# Altium footprint library XS library.PcbLib: 379 footprints (part 3 of 24)
Each footprint in its own frame and in the unit in brackets; x right, y up, seen from the top. Pads: shape width x height; smd on the part's side, far side on the other; paste and mask are expansions set on the pad; w line width, h text height; cw(c..) or ccw(c..) is an arc to the next point about the centre after c.
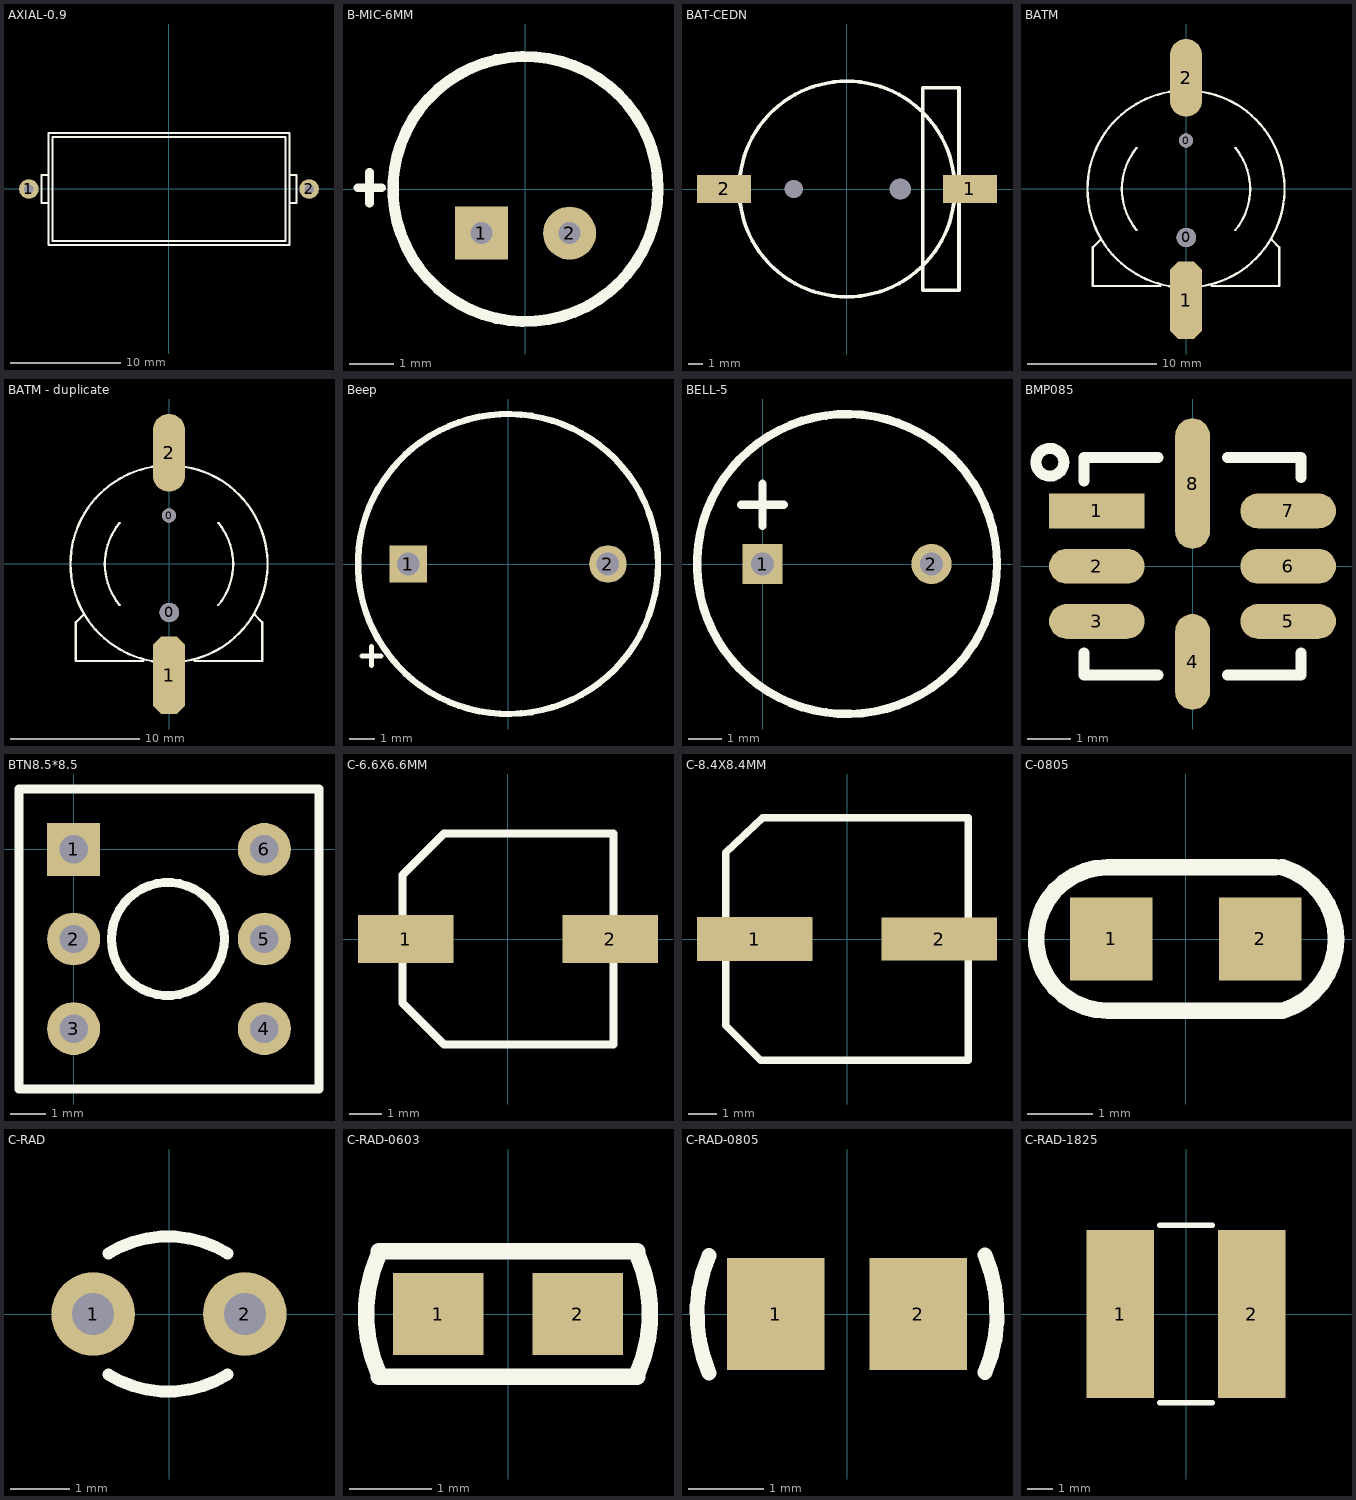
[diagram p2: the footprints below, top view; thin cyan lines are the x and y axes]

## AXIAL-0.9 [mil] "插件电阻"
height 100
pads (2):
  round 70 hole 33.46: 1(-500,0) 2(500,0)
Top Overlay:
  lines w7.87: -430,-50 -455,-50 -455,50 -430,50 ; 430,-50 455,-50 455,50 430,50 ; -430,-200 -430,200 430,200 430,-200 -430,-200 ; -415,-185 -415,185 415,185 415,-185 -415,-185

## B-MIC-6MM [mm]
pads (2):
  rect 1.2x1.2 hole 0.5: 1(-1,-1)
  round 1.2 hole 0.5: 2(1,-1)
Top Overlay:
  circle w0.254: c0,0 r3
  lines w0.2: -3.792,0.03 -3.262,0.03 ; -3.532,-0.32 -3.532,0.38

## BAT-CEDN [mm]
pads (4):
  rect 3.81x2 smd: 1(8.636,0) 2(-8.636,0)
  round 0 hole 1.5 unplated: 3(3.75,0)
  round 0 hole 1.3 unplated: 4(-3.75,0)
Top Overlay:
  circle w0.254: c0,0 r7.578
  lines w0.254: 5.334,-7.112 7.874,-7.112 7.874,7.112 5.334,7.112 5.334,-7.112

## BATM [mm]
pads (4):
  round 1.1 hole 1.1 unplated: 0(0,3.748)
  round 1.5 hole 1.5 unplated: 0(0.025,-3.752)
  oct 2.5x6 smd: 1(0,-8.602)
  oval 2.5x6 smd: 2(0,8.598)
Top Overlay:
  lines w0.178: -6.6,-3.902 -7.2,-4.502 -7.2,-7.502 -2,-7.502 ; -3.815,-3.171 cw(c0,-0.002) -3.812,3.171 ; -0.833,-7.576 cw(c0,-0.002) -7.62,-0.002 cw(c0,-0.002) -0.833,7.573 ; 0.833,-7.576 ccw(c0,-0.002) 0.833,7.573 ; 2,-7.502 7.2,-7.502 7.2,-4.502 6.625,-3.927 ; 3.81,-3.177 ccw(c0,-0.002) 3.812,3.171

## BATM - duplicate [mm]
pads (4):
  round 1.1 hole 1.1 unplated: 0(0,3.748)
  round 1.5 hole 1.5 unplated: 0(0.025,-3.752)
  oct 2.5x6 smd: 1(0,-8.602)
  oval 2.5x6 smd: 2(0,8.598)
Top Overlay:
  lines w0.178: -6.6,-3.902 -7.2,-4.502 -7.2,-7.502 -2,-7.502 ; -3.815,-3.171 cw(c0,-0.002) -3.812,3.171 ; -0.833,-7.576 cw(c0,-0.002) -7.62,-0.002 cw(c0,-0.002) -0.833,7.573 ; 0.833,-7.576 ccw(c0,-0.002) 0.833,7.573 ; 2,-7.502 7.2,-7.502 7.2,-4.502 6.625,-3.927 ; 3.81,-3.177 ccw(c0,-0.002) 3.812,3.171

## Beep [mm] "蜂鸣器"
height 6
pads (2):
  rect 1.5x1.5 hole 0.9: 1(-4,0)
  round 1.5 hole 0.9: 2(4,0)
Top Overlay:
  circle w0.254: c0,0 r6
  lines w0.2: -5.842,-3.683 -5.08,-3.683 ; -5.461,-4.064 -5.461,-3.302

## BELL-5 [mm]
pads (2):
  rect 1.2x1.2 hole 0.7: 1(0,0)
  round 1.2 hole 0.7: 2(5.08,0)
Top Overlay:
  circle w0.254: c2.54,0 r4.51
  lines w0.254: -0.635,1.778 0.635,1.778 ; 0,1.143 0,2.413

## BMP085 [mm]
pads (8):
  rect 2.2x0.8 smd: 1(-2.2,1.27)
  oval 2.2x0.8 smd: 2(-2.2,0) 3(-2.2,-1.27) 5(2.2,-1.27) 6(2.2,0) 7(2.2,1.27)
  oval 0.8x2.2 smd: 4(0,-2.2)
  oval 0.8x3 smd: 8(0,1.9)
Top Overlay:
  circle w0.254: c-3.28,2.39 r0.32
  lines w0.254: -2.5,-2 -2.5,-2.5 -0.8,-2.5 ; -2.5,1.96 -2.5,2.5 -0.8,2.5 ; 0.8,-2.5 2.5,-2.5 2.5,-2 ; 0.8,2.5 2.5,2.5 2.5,2.04

## BTN8.5*8.5 [mm]
pads (6):
  rect 1.5x1.5 hole 0.8: 1(0,0)
  round 1.5 hole 0.8: 2(0,-2.54) 3(0,-5.08) 4(5.4,-5.08) 5(5.4,-2.54) 6(5.4,0)
Top Overlay:
  circle w0.254: c2.667,-2.54 r1.6
  lines w0.254: -1.55,-6.79 6.95,-6.79 6.95,1.71 -1.55,1.71 -1.55,-6.79

## C-6.6X6.6MM [mm]
pads (2):
  rect 3x1.5 smd: 1(-3.2,0) 2(3.2,0)
Top Overlay:
  lines w0.254: -3.3,-2 -3.3,2 -2,3.3 3.3,3.3 3.3,-3.3 -2,-3.3 -3.3,-2

## C-8.4X8.4MM [mm]
pads (2):
  rect 4x1.524 smd: 1(-3.2,0)
  rect 4x1.5 smd: 2(3.2,0)
Top Overlay:
  lines w0.254: -4.2,-3 -4.2,3 -2.92,4.2 4.2,4.2 4.2,-4.2 -3,-4.2 -4.2,-3

## C-0805 [mil]
pads (2):
  rect 50x50 smd: 1(-45,0) 2(45,0)
Top Overlay:
  lines w10: 52.07,-43.31 -47.14,-43.31 cw(c-47.14,0) -47.14,43.31 54.04,43.31 ; 53.54,-43.31 58.63,-43.31 ccw(c45.47,0) 58.63,43.31 57.98,43.31

## C-RAD [mm] "瓷片电容"
height 6
pads (2):
  round 1.4 hole 0.7: 1(-1.27,0) 2(1.27,0)
Top Overlay:
  lines w0.2: -1.016,-1.016 ccw(c-0.018,0.606) 0.981,-1.016 ; -1.016,1.016 cw(c-0.018,-0.606) 0.981,1.016

## C-RAD-0603 [mm] "贴片电容"
height 0.6
pads (2):
  rect 1.1x1 smd: 1(-0.85,0) 2(0.85,0)
Top Overlay:
  lines w0.2: -1.574,-0.762 1.574,-0.762 ; -1.574,-0.727 cw(c0.048,0) -1.574,0.727 ; -1.574,0.762 1.574,0.762 ; 1.574,-0.727 ccw(c-0.048,0) 1.574,0.727
3D body: height 1, standoff 0, extent -1.143,-0.381 1.143,0.381

## C-RAD-0805 [mm] "贴片电容"
height 1
pads (2):
  rect 1.3x1.5 smd: 1(-0.95,0) 2(0.95,0)
Top Overlay:
  lines w0.2: -1.842,0.779 ccw(c0,0) -1.838,-0.789 ; 1.838,0.789 cw(c0,0) 1.842,-0.779
3D body: height 0.8, standoff 0, extent -1.016,-0.635 1.016,0.635
3D body: height 0.9, standoff 0, extent -1.27,-0.635 -0.889,0.635
3D body: height 0.9, standoff 0, extent 0.889,-0.635 1.27,0.635

## C-RAD-1825 [mm] "贴片电阻"
pads (2):
  rect 2.6x6.5 smd: 1(-2.54,0) 2(2.54,0)
Top Overlay:
  lines w0.2: -1.016,-3.429 1.016,-3.429 ; -1.016,3.429 1.016,3.429
3D body: height 1.2, standoff 0, extent -2.286,-3.175 2.286,3.175